# Altium footprint library WDFN8.PcbLib: 1 footprints
Each footprint in its own frame and in the unit in brackets; x right, y up, seen from the top. Pads: shape width x height; smd on the part's side, far side on the other; paste and mask are expansions set on the pad; w line width, h text height; cw(c..) or ccw(c..) is an arc to the next point about the centre after c.
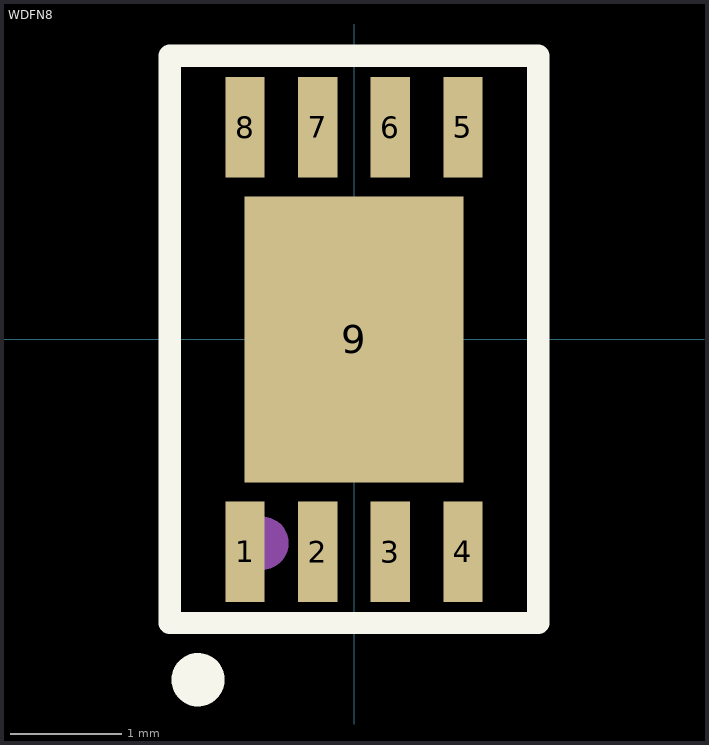
[diagram p0: the footprint, top view; thin cyan lines are the x and y axes]

## WDFN8 [mm]
pads (9):
  rect 0.35x0.9 smd: 1(-0.975,-1.9) 2(-0.325,-1.9) 3(0.325,-1.9) 4(0.975,-1.9) 5(0.975,1.9) 6(0.325,1.9) 7(-0.325,1.9) 8(-0.975,1.9)
  rect 1.96x2.56 smd: 9(0,0)
Top Overlay:
  circle w0.254: c-1.397,-3.048 r0.112
  lines w0.2: -1.651,-2.54 -1.651,2.54 1.651,2.54 1.651,-2.54 -1.651,-2.54
Top Assembly:
  circle w0.254: c-0.825,-1.825 r0.112
  lines w0.1: -1.651,-2.54 1.651,-2.54 1.651,2.54 -1.651,2.54 -1.651,-2.54
  text "'.Designator'" at -0.95,-0.325 h0.7
3D body: height 0.25, standoff 0, extent -1.5,-2 1.5,1.975